# EAGLE library part CON16P2R (library ads4)
16-Pin Dual-Row Connector
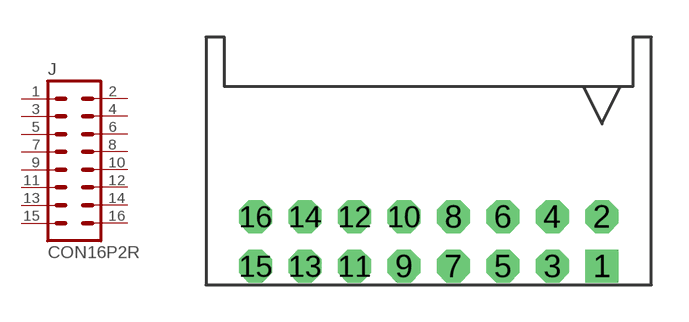
[diagram p9: symbol with the pads of DF11-16DP-2DS; footprint DF11-16DP-2DS]

Designator prefix J

## CON16P2RDF11  [DF11-16DP-2DS]
1  1  pas
2  2  pas
3  3  pas
4  4  pas
5  5  pas
6  6  pas
7  7  pas
8  8  pas
9  9  pas
10  10  pas
11  11  pas
12  12  pas
13  13  pas
14  14  pas
15  15  pas
16  16  pas

## Footprint DF11-16DP-2DS (pad centres in mm)
Hirose right-angle dual-row 2mm pin header
drill 0.813 square: 1 7,-1
drill 0.813 octagon: 2 7,1; 3 5,-1; 4 5,1; 5 3,-1; 6 3,1; 7 1,-1; 8 1,1; 9 -1,-1; 10 -1,1; 11 -3,-1; 12 -3,1; 13 -5,-1; 14 -5,1; 15 -7,-1; 16 -7,1